# EAGLE library part UCC5606PWPTR (library SamacSys_Parts)
Lowest Capacitance 9-Line 3-5V SE Terminator for SCSI Through Ultra SCSI with Reverse Disconnect Source: Datasheet <http://www.ti.com/lit/gpn/ucc5606>
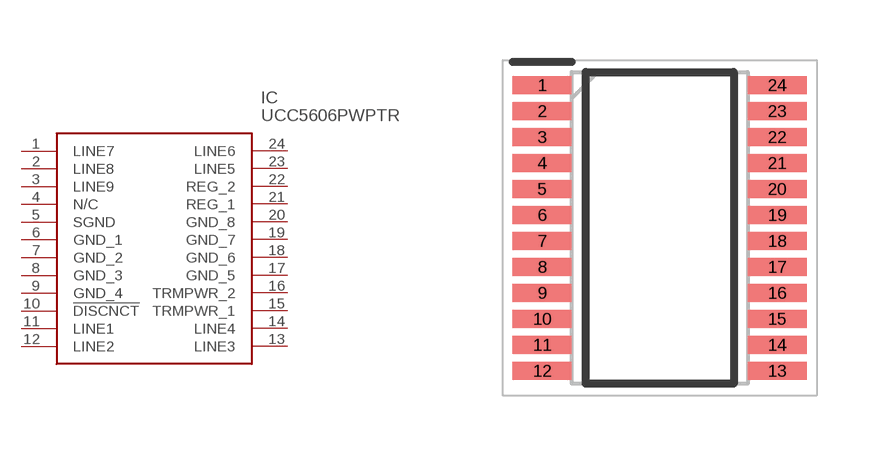
[diagram p64: symbol with the pads of SOP65P640X120-24N; footprint SOP65P640X120-24N]

Designator prefix IC

## UCC5606PWPTR (DESCRIPTION: Lowest Capacitance 9-Line 3-5V SE Terminator for SCSI Through Ultra SCSI with Reverse Disconnect; HEIGHT: 1.2mm; MANUFACTURER_NAME: Texas Instruments; MANUFACTURER_PART_NUMBER: UCC5606PWPTR; MOUSER_PART_NUMBER: 595-UCC5606PWPTR; MOUSER_PRICE-STOCK: https://www.mouser.co.uk/ProductDetail/Texas-Instruments/UCC5606PWPTR?qs=zqbRmZ%252BfZD%252B%252BvEDSEQ2enA%3D%3D)  [SOP65P640X120-24N]
1  LINE7
2  LINE8
3  LINE9
4  N/C  nc
5  SGND
6  GND_1
7  GND_2
8  GND_3
9  GND_4
10  !DISCNCT
11  LINE1
12  LINE2
13  LINE3
14  LINE4
15  TRMPWR_1
16  TRMPWR_2
17  GND_5
18  GND_6
19  GND_7
20  GND_8
21  REG_1
22  REG_2
23  LINE5
24  LINE6

## Footprint SOP65P640X120-24N (pad centres in mm)
PW (R-PDSO-G24)
smd 1.475 x 0.45: 1 -2.938,3.575; 2 -2.938,2.925; 3 -2.938,2.275; 4 -2.938,1.625; 5 -2.938,0.975; 6 -2.938,0.325; 7 -2.938,-0.325; 8 -2.938,-0.975; 9 -2.938,-1.625; 10 -2.938,-2.275; 11 -2.938,-2.925; 12 -2.938,-3.575; 13 2.938,-3.575; 14 2.938,-2.925; 15 2.938,-2.275; 16 2.938,-1.625; 17 2.938,-0.975; 18 2.938,-0.325; 19 2.938,0.325; 20 2.938,0.975; 21 2.938,1.625; 22 2.938,2.275; 23 2.938,2.925; 24 2.938,3.575